# EAGLE library part PTV112-4420A-B104 (library PTV112-4420A-B104)
Potentiometers PANEL CONTROL 100kOhm Source: Datasheet <https://www.bourns.com/docs/Product-Datasheets/PTVPTT.pdf>
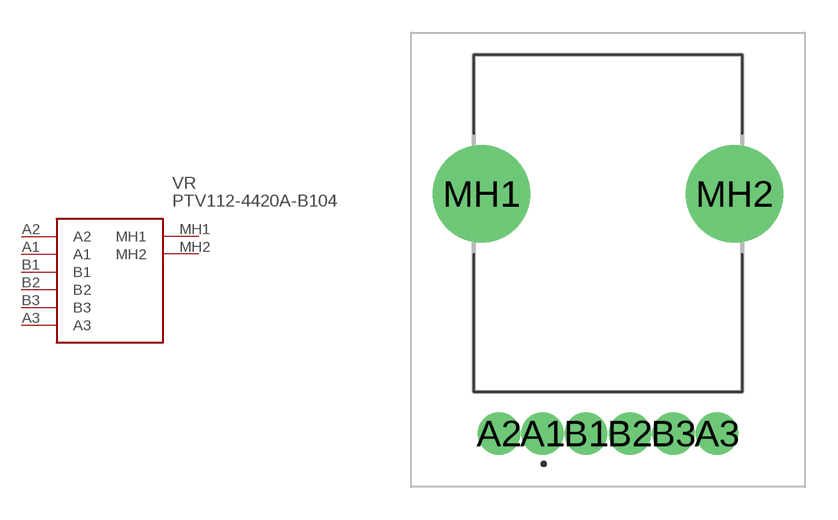
[diagram p0: symbol with the pads of PTV1124420AB104; footprint PTV1124420AB104]

Designator prefix VR

## PTV112-4420A-B104 (Description: Potentiometers PANEL CONTROL 100kOhm; Height: 20.5mm; Manufacturer_Name: Bourns; Manufacturer_Part_Number: PTV112-4420A-B104; Mouser_Part_Number: 652-PTV1124420AB104; Mouser_Price-Stock: https://www.mouser.co.uk/ProductDetail/Bourns/PTV112-4420A-B104?qs=nqw9FAyaR8PT4wHHFlLdhA%3D%3D)  [PTV1124420AB104]
A1  A1
A2  A2
A3  A3
B1  B1
B2  B2
B3  B3
MH1  MH1
MH2  MH2

## Footprint PTV1124420AB104 (pad centres in mm)
PTV112-4420A-B104
drill 1.3 pad 1.8: A1 0,0; A2 -2,0; A3 8,0; B1 2,0; B2 4,0; B3 6,0
drill 2.97 pad 4.455: MH1 -2.8,11; MH2 8.8,11